# Altium footprint library 3.97inch_LCD_PCB_Package_Library.PcbLib: 1 footprints
Each footprint in its own frame and in the unit in brackets; x right, y up, seen from the top. Pads: shape width x height; smd on the part's side, far side on the other; paste and mask are expansions set on the pad; w line width, h text height; cw(c..) or ccw(c..) is an arc to the next point about the centre after c.
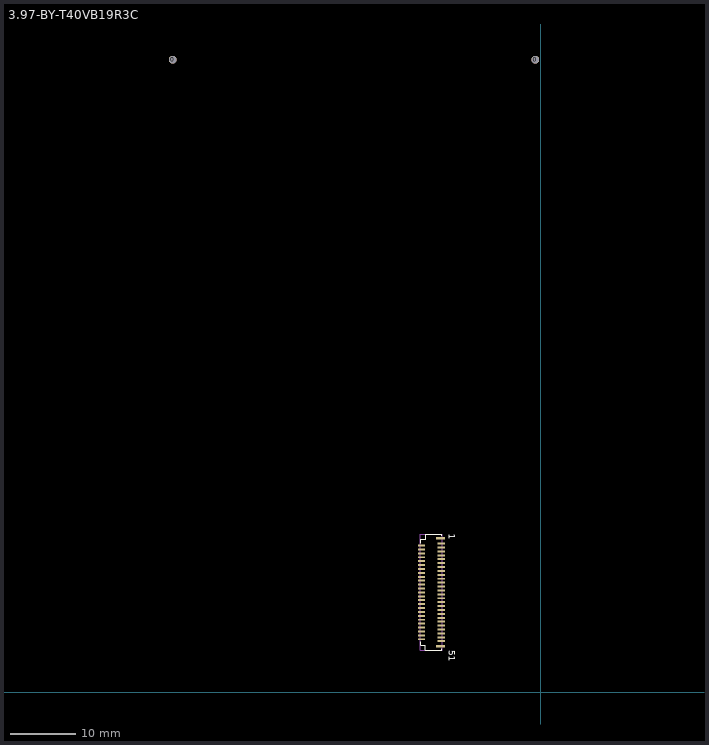
[diagram p0: the footprint, top view; thin cyan lines are the x and y axes]

## 3.97-BY-T40VB19R3C [mm]
pads (55):
  round 1.2 hole 1.2 unplated: 0(-56.54,97.2) 0(-0.8,97.2)
  rect 1.15x0.3 smd: 1(-15.296,22.834) 3(-15.296,22.234) 5(-15.296,21.634) 7(-15.296,21.034) 9(-15.296,20.434) 11(-15.296,19.834) 13(-15.296,19.234) 15(-15.296,18.634) 17(-15.296,18.034) 19(-15.296,17.434) 21(-15.296,16.834) 23(-15.296,16.234) 25(-15.296,15.634) 27(-15.296,15.034) 29(-15.296,14.434) 31(-15.296,13.834) 33(-15.296,13.234) 35(-15.296,12.634) 37(-15.296,12.034) 39(-15.296,11.434) 41(-15.296,10.834) 43(-15.296,10.234) 45(-15.296,9.634) 47(-15.296,9.034) 49(-15.296,8.434) 51(-15.296,7.834)
  rect 1x0.3 smd: 2(-18.296,22.534) 4(-18.296,21.934) 6(-18.296,21.334) 8(-18.296,20.734) 10(-18.296,20.134) 12(-18.296,19.534) 14(-18.296,18.934) 16(-18.296,18.334) 18(-18.296,17.734) 20(-18.296,17.134) 22(-18.296,16.534) 24(-18.296,15.934) 26(-18.296,15.334) 28(-18.296,14.734) 30(-18.296,14.134) 32(-18.296,13.534) 34(-18.296,12.934) 36(-18.296,12.334) 38(-18.296,11.734) 40(-18.296,11.134) 42(-18.296,10.534) 44(-18.296,9.934) 46(-18.296,9.334) 48(-18.296,8.734) 50(-18.296,8.134)
  rect 1.35x0.4 smd: 60(-15.396,7.034) 61(-15.396,23.634)
Top Overlay:
  lines w0.152: -18.448,7.755 -18.448,7.196 -17.686,7.196 -17.686,6.434 -15.172,6.434 ; -18.423,22.915 -18.423,23.474 -17.661,23.474 -17.661,24.236 -15.146,24.236 ; -15.172,6.51 -15.172,6.637 ; -15.146,24.033 -15.146,24.16
  text "1" at -14.105,24.341 h1.02
  text "51" at -14.105,6.46 h1.02
Bottom Overlay:
  lines w0.152: -57.34,0 -57.34,97.8 0,97.8 0,0 -57.34,0
Mechanical 13:
  lines w0.1: -18.499,6.408 -15.07,6.408 -15.07,24.236 -18.499,24.236 -18.499,6.408